# Altium integrated library 0ZCA0100FF2E.IntLib: 1 symbol
Pins are listed as number, name and electrical type; pins without a type are passive.

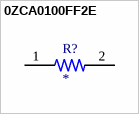
[diagram p0: symbol 0ZCA0100FF2E]

## 0ZCA0100FF2E
designator R?
Polymeric PTC Resettable Fuse 6V 1 A Ih Surface Mount 1206 (3216 Metric), Concave; MP: 0ZCA0100FF2E; MF: Bel Fuse; Check_prices: https://www.snapeda.com/parts/0ZCA0100FF2E/Bel+Fuse+Inc./view-part/?ref=eda; Value: *; Availability: In Stock; Price: None; Package: 1206 Bel Fuse; SnapEDA_Link: https://www.snapeda.com/parts/0ZCA0100FF2E/Bel+Fuse+Inc./view-part/?ref=snap; Purchase-URL: https://pricing.snapeda.com/search/part/0ZCA0100FF2E/?ref=eda
footprint RESC3216X125N
pins: 1, 2